# EAGLE library part ECMF02-2AMX6 (library ECMF02-2AMX6)
Common Mode Filter & ESD Prot. USB uQFN6 STMicroelectronics ECMF02 Series, Signal Filter, 200mA uQFN SMD, Flat Contact Termination, 1.8 x 1.6 x 0.5mm Source: Datasheet <http://www.st.com/content/ccc/resource/technical/document/datasheet/3a/28/cf/d0/31/63/48/8c/CD00282307.pdf/files/CD00282307.pdf/jcr:content/translations/en.CD00282307.pdf>
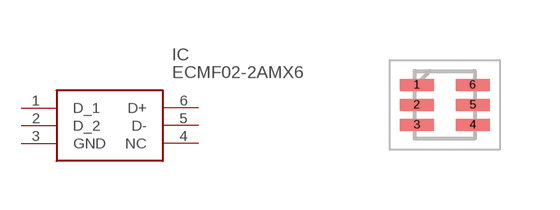
[diagram p0: symbol with the pads of SON50P150X170X55-6N; footprint SON50P150X170X55-6N]

Designator prefix IC

## ECMF02-2AMX6 (Arrow_Part_Number: ECMF02-2AMX6; Arrow_Price-Stock: https://www.arrow.com/en/products/ecmf02-2amx6/stmicroelectronics; Description: Common Mode Filter & ESD Prot. USB uQFN6 STMicroelectronics ECMF02 Series, Signal Filter, 200mA uQFN SMD, Flat Contact Termination, 1.8 x 1.6 x 0.5mm; Height: 0.55mm; Manufacturer_Name: STMicroelectronics; Manufacturer_Part_Number: ECMF02-2AMX6; Mouser_Part_Number: 511-ECMF02-2AMX6; Mouser_Price-Stock: https://www.mouser.co.uk/ProductDetail/STMicroelectronics/ECMF02-2AMX6/?qs=raAh8RbVwI65u5gmT42%2Flg%3D%3D)  [SON50P150X170X55-6N]
1  D_1
2  D_2
3  GND
4  NC  nc
5  D-
6  D+

## Footprint SON50P150X170X55-6N (pad centres in mm)
QFN 6L
smd 0.85 x 0.3: 1 -0.7,0.5; 2 -0.7,0; 3 -0.7,-0.5; 4 0.7,-0.5; 5 0.7,0; 6 0.7,0.5